# EAGLE library part NRF24L01+ (library PiB_radio_frequency)
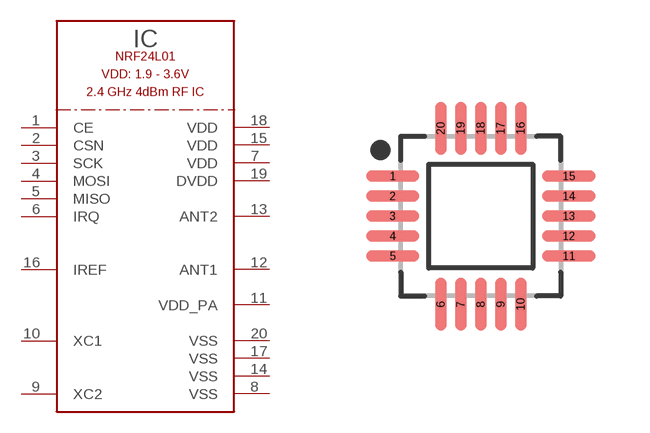
[diagram p2: symbol with the pads of QFN50P400X400X95-20; footprint QFN50P400X400X95-20]

Designator prefix IC

## NRF24L01+_VQFN-20 (CREATOR: Kenmei; DATASHEET: http://www.nordicsemi.com/eng/content/download/2726/34069/file/nRF24L01P_Product_Specification_1_0.pdf; DIST: Digikey; DISTLINK: https://www.digikey.com/products/en?mpart=NRF24L01P-T&v=1490; DISTPN: 1490-1019-ND; MPN: NRF24L01P-T; VALUE: NRF24L01+)  [QFN50P400X400X95-20]
1  CE
2  CSN
3  SCK
4  MOSI
5  MISO
6  IRQ
7  VDD
8  VSS
9  XC2
10  XC1
11  VDD_PA
12  ANT1
13  ANT2
14  VSS
15  VDD
16  IREF
17  VSS
18  VDD
19  DVDD
20  VSS

## Footprint QFN50P400X400X95-20 (pad centres in mm)
20-QFN, 0.50 mm pitch, 4.00 X 4.00 X 0.95 mm body 20-pin QFN package with 0.50 mm pitch with body size 4.00 X 4.00 X 0.95 mm
smd 1.335 x 0.293: 1 -2.203,1; 2 -2.203,0.5; 3 -2.203,0; 4 -2.203,-0.5; 5 -2.203,-1; 11 2.203,-1; 12 2.203,-0.5; 13 2.203,0; 14 2.203,0.5; 15 2.203,1
smd 0.293 x 1.335: 6 -1,-2.203; 7 -0.5,-2.203; 8 0,-2.203; 9 0.5,-2.203; 10 1,-2.203; 16 1,2.203; 17 0.5,2.203; 18 0,2.203; 19 -0.5,2.203; 20 -1,2.203